# Altium footprint library QUTMS_MicrofitLibrary.PcbLib: 64 footprints (part 3 of 4)
Each footprint in its own frame and in the unit in brackets; x right, y up, seen from the top. Pads: shape width x height; smd on the part's side, far side on the other; paste and mask are expansions set on the pad; w line width, h text height; cw(c..) or ccw(c..) is an arc to the next point about the centre after c.
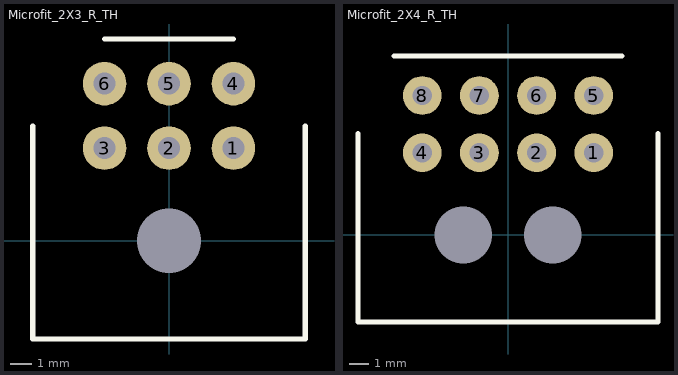
[diagram p2: the footprints below, top view; thin cyan lines are the x and y axes]

## Microfit_2X3_R_SMD [mil]

## Microfit_2X3_R_TH [mil]
pads (7):
  round 80 hole 40: 1(118.11,170) 2(0,170) 3(-118.11,170) 4(118.11,288.19) 5(0,288.19) 6(-118.11,288.19)
  round 0 hole 118.11 mask+10: NC(0,0)
Top Overlay:
  lines w10: -250,210 -250,-180 250,-180 250,210 ; -118.11,370 118.11,370
3D body "430450600.stp": height 350.16, standoff -120.31, extent -258.85,-180.07 258.86,301.81

## Microfit_2X3_V_SMD [mil]

## Microfit_2X3_V_TH [mil]

## Microfit_2X4_R_SMD [mil]

## Microfit_2X4_R_TH [mil]
pads (10):
  round 80 hole 40: 1(177.17,170) 2(59.06,170) 3(-59.06,170) 4(-177.17,170) 5(177.17,288.19) 6(59.06,288.19) 7(-59.06,288.19) 8(-177.17,288.19)
  round 0 hole 118.11 mask+10: NC(-92.52,0) NC(92.52,0)
Top Overlay:
  lines w10: -310,210 -310,-180 310,-180 310,210 ; -236.22,370 236.22,370
3D body "430450800.stp": height 350.16, standoff -120.31, extent -317.91,-180.07 317.92,301.81

## Microfit_2X4_V_SMD [mil]

## Microfit_2X4_V_TH [mil]

## Microfit_2X5_R_SMD [mil]

## Microfit_2X5_R_TH [mil]

## Microfit_2X5_V_SMD [mil]

## Microfit_2X5_V_TH [mil]

## Microfit_2X6_R_SMD [mil]

## Microfit_2X6_R_TH [mil]

## Microfit_2X6_V_SMD [mil]

## Microfit_2X6_V_TH [mil]